# Altium footprint library 136.PcbLib: 1 footprints
Each footprint in its own frame and in the unit in brackets; x right, y up, seen from the top. Pads: shape width x height; smd on the part's side, far side on the other; paste and mask are expansions set on the pad; w line width, h text height; cw(c..) or ccw(c..) is an arc to the next point about the centre after c.
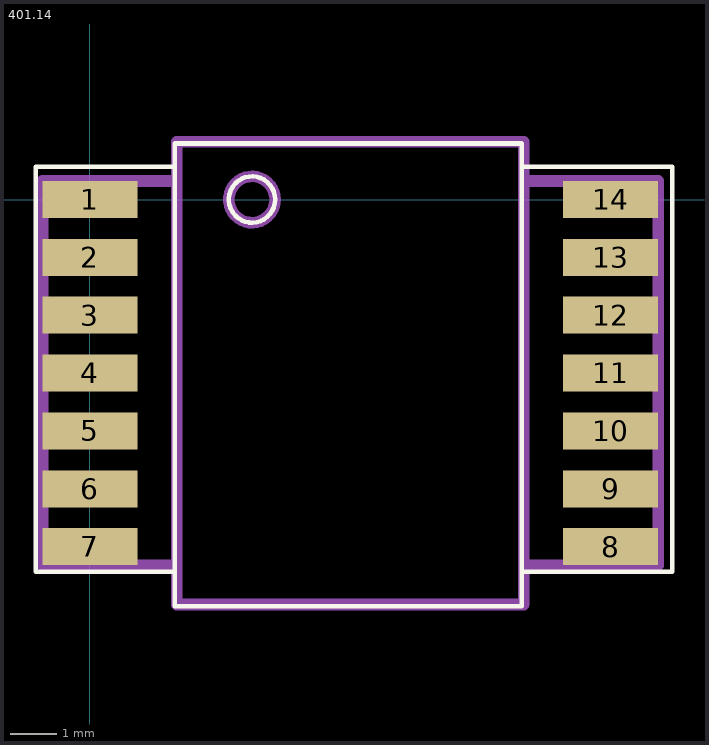
[diagram p0: the footprint, top view; thin cyan lines are the x and y axes]

## 401.14 [mm]
pads (14):
  rect 2.05x0.8 smd: 1(0,0) 2(0,-1.25) 3(0,-2.5) 4(0,-3.75) 5(0,-5) 6(0,-6.25) 7(0,-7.5) 8(11.25,-7.5) 9(11.25,-6.25) 10(11.25,-5) 11(11.25,-3.75) 12(11.25,-2.5) 13(11.25,-1.25) 14(11.25,0)
Top Overlay:
  circle w0.1: c3.5,0 r0.5
  lines w0.1: 1.83,-8.04 -1.17,-8.04 -1.17,0.71 1.83,0.71 ; 9.33,-8.04 12.58,-8.04 12.58,0.71 9.33,0.71 ; 1.83,-8.79 9.33,-8.79 9.33,1.21 1.83,1.21 1.83,-8.79
Mechanical 1:
  circle w0.25: c3.5,0 r0.5
  lines w0.25: 1.875,-7.9 -1.025,-7.9 -1.025,0.4 1.875,0.4 ; 9.375,-7.9 12.275,-7.9 12.275,0.4 9.375,0.4 ; 1.875,-8.75 9.375,-8.75 9.375,1.25 1.875,1.25 1.875,-8.75